# EAGLE library part J-8-SHIELD (library conn)
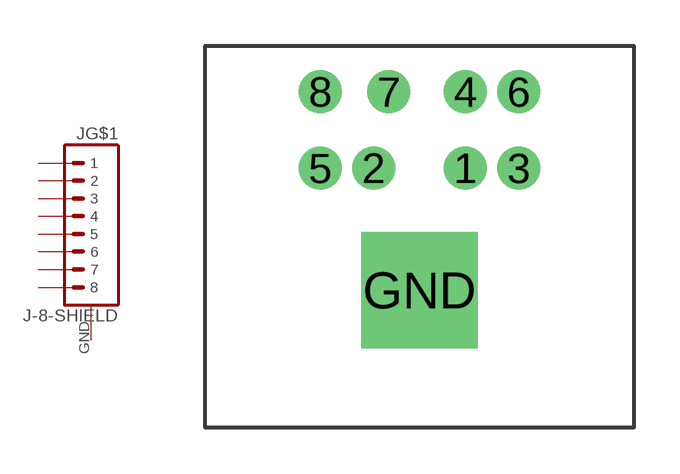
[diagram p3: symbol with the pads of J-8-MINIDIN-KMD11; footprint J-8-MINIDIN-KMD11]

Designator prefix J; gates G$1=J-8 G$2=PWR-GND

## J-8-SHIELD-MINIDIN  [J-8-MINIDIN-KMD11]
1  G$1:1  pas
2  G$1:2  pas
3  G$1:3  pas
4  G$1:4  pas
5  G$1:5  pas
6  G$1:6  pas
7  G$1:7  pas
8  G$1:8  pas
GND  G$2:GND  pwr

## Footprint J-8-MINIDIN-KMD11 (pad centres in mm)
Mini-DIN Socket. Pads are numbered corresponding to Mini-DIN 8 connector pins.
drill 0.9: 1 1.5,0; 2 -1.5,0; 3 3.25,0; 4 1.5,2.5; 5 -3.25,0; 6 3.25,2.5; 7 -1,2.5; 8 -3.25,2.5
drill 2.8 pad 3.81 square: GND 0,-4